# Altium schematic symbol library RC0603FR-07249KL.SchLib: 1 symbol
Pins are listed as number, name and electrical type; pins without a type are passive.

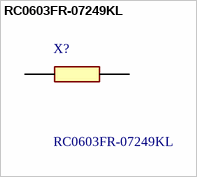
[diagram p0: symbol RC0603FR-07249KL]

## RC0603FR-07249KL
designator X?
Thick Film Resistors - SMD 249K OHM 1%; Manufacturer_Name: Yageo Group; Geometry.Height: 0.55mm; Mouser Part Number: 603-RC0603FR-07249KL; Mouser Price/Stock: https://www.mouser.com/Search/Refine.aspx?Keyword=603-RC0603FR-07249KL; Manufacturer_Part_Number: RC0603FR-07249KL; Datasheet Link: https://componentsearchengine.com/Datasheets/1/RC0603FR-07249KL.pdf
footprint RESC1608X55N
pins: 1, 2